# Altium schematic symbol library PDU.SchLib: 91 symbols (part 11 of 11)
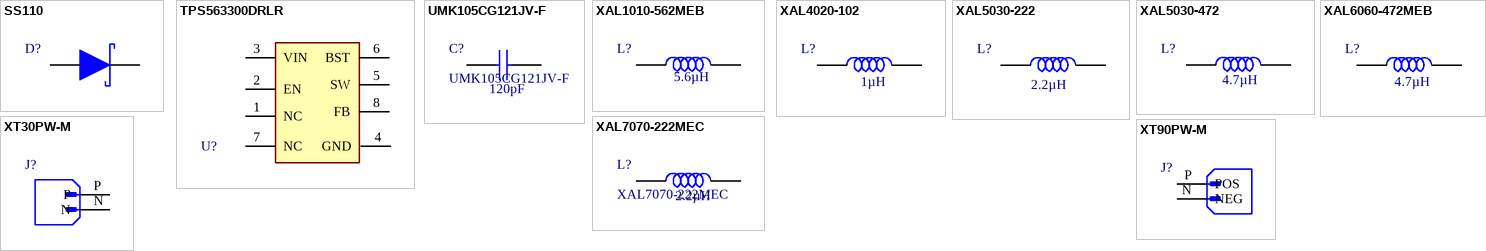
[diagram p12: symbols SS110 to XT90PW-M]

## XAL7070-222MEC
designator L?  value 2.2µH
General Purpose Inductor, 2.2uH, 20%, 1 Element, Composite-Core, SMD, 3028; Manufacturer: Coilcraft; Manufacturer Part Number: XAL7070-222MEB; DC Resistance (DCR): 6.33mΩ; Max Current Rating: 17.8A; Number of Circuits: 1; Self Resonant Frequency: 35MHz; Shielding: Shielded; Test Frequency: 1MHz; Category: Fixed Inductors; Core Material: Composite; Country of Origin: Indonesia, Mainland China, Mexico; Export Control Classification Number (ECCN) Code: EAR99; Harmonized Tariff Schedule (HTS) Code: 8504.50.80.00; Height: 7mm; Introduction Date: 2011-03-10; Lead Free: Contains Lead; Length: 7.5mm; Lifecycle Status: Obsolete; LTB Date: 2021-03-01; LTD Date: 2021-03-01; Max DC Current: 17.8A; Max Operating Temperature: 125°C; Min Operating Temperature: -40°C; Number of Terminals: 2; Ratings: AEC-Q200; REACH SVHC: Yes; RoHS: Compliant; Termination: SMD/SMT; Tolerance: 20%; Width: 7.2mm; DataSheet: https://www.coilcraft.com/getmedia/1ba55433-bcc8-4838-9b21-382f497e12e0/xal7070.pdf
footprint XAL7070 (XAL7070-222MEC)
pins: 1, 2

## XT30PW-M
designator J?  (value not drawn)
Socket; DC supply; XT30; male; PIN: 2; on PCBs; THT; Colour: yellow
footprint XT30PW-M
pins: N (power), P (power)

## XT90PW-M
designator J?  (value not drawn)
Socket; DC supply; XT90; male; PIN: 2; on PCBs; THT; Colour: yellow; Manufacturer: Amass; Category: Uncategorized; Color: Yellow; Contact Material: Brass; Manufacturer Part Number: XT90PW-M; Pins: 2; Orientation: Straight
footprint XT90PW-M (BAT)
pins: N NEG, P POS